# EAGLE library part ARDUINO_NANO-EVERY4808 (library ARDUINO_NANO_EVERY-34pin)
Arduino Nano Every 34pin version, Through Hole
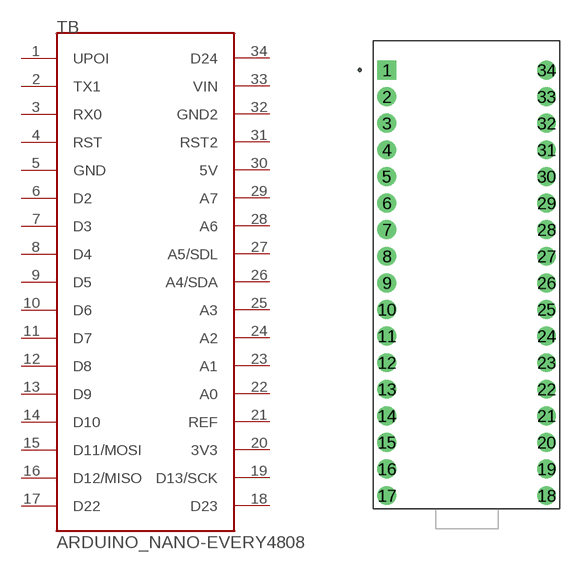
[diagram p0: symbol with the pads of NANO-EVERY-4808; footprint NANO-EVERY-4808]

Designator prefix TB

## ARDUINO_NANO-EVERY4808 (AVAILABILITY: Unavailable; DESCRIPTION: ATmega4809 Arduino Nano Every with Headers AVR® AVR MCU 8-Bit Embedded Evaluation Board; MF: Arduino; MP: ARDUINO NANO; PACKAGE: None; PRICE: None)  [NANO-EVERY-4808]
1  UPOI  in
2  TX1
3  RX0
4  RST  in
5  GND  in
6  D2  in
7  D3  in
8  D4  in
9  D5  in
10  D6
11  D7
12  D8
13  D9
14  D10
15  D11/MOSI  in
16  D12/MISO
17  D22
18  D23
19  D13/SCK
20  3V3
21  REF
22  A0
23  A1
24  A2  pwr
25  A3
26  A4/SDA
27  A5/SDL
28  A6
29  A7
30  5V
31  RST2  pwr
32  GND2  pwr
33  VIN  pwr
34  D24

## Footprint NANO-EVERY-4808 (pad centres in mm)
drill 0.9 pad 1.8 square: 1 -7.62,17.78
drill 0.9 pad 1.8: 2 -7.62,15.24; 3 -7.62,12.7; 4 -7.62,10.16; 5 -7.62,7.62; 6 -7.62,5.08; 7 -7.62,2.54; 8 -7.62,0; 9 -7.62,-2.54; 10 -7.62,-5.08; 11 -7.62,-7.62; 12 -7.62,-10.16; 13 -7.62,-12.7; 14 -7.62,-15.24; 15 -7.62,-17.78; 16 -7.62,-20.32; 17 -7.62,-22.86; 18 7.62,-22.86; 19 7.62,-20.32; 20 7.62,-17.78; 21 7.62,-15.24; 22 7.62,-12.7; 23 7.62,-10.16; 24 7.62,-7.62; 25 7.62,-5.08; 26 7.62,-2.54; 27 7.62,0; 28 7.62,2.54; 29 7.62,5.08; 30 7.62,7.62; 31 7.62,10.16; 32 7.62,12.7; 33 7.62,15.24; 34 7.62,17.78